# Altium footprint library Connectors.PcbLib: 12 footprints
Each footprint in its own frame and in the unit in brackets; x right, y up, seen from the top. Pads: shape width x height; smd on the part's side, far side on the other; paste and mask are expansions set on the pad; w line width, h text height; cw(c..) or ccw(c..) is an arc to the next point about the centre after c.
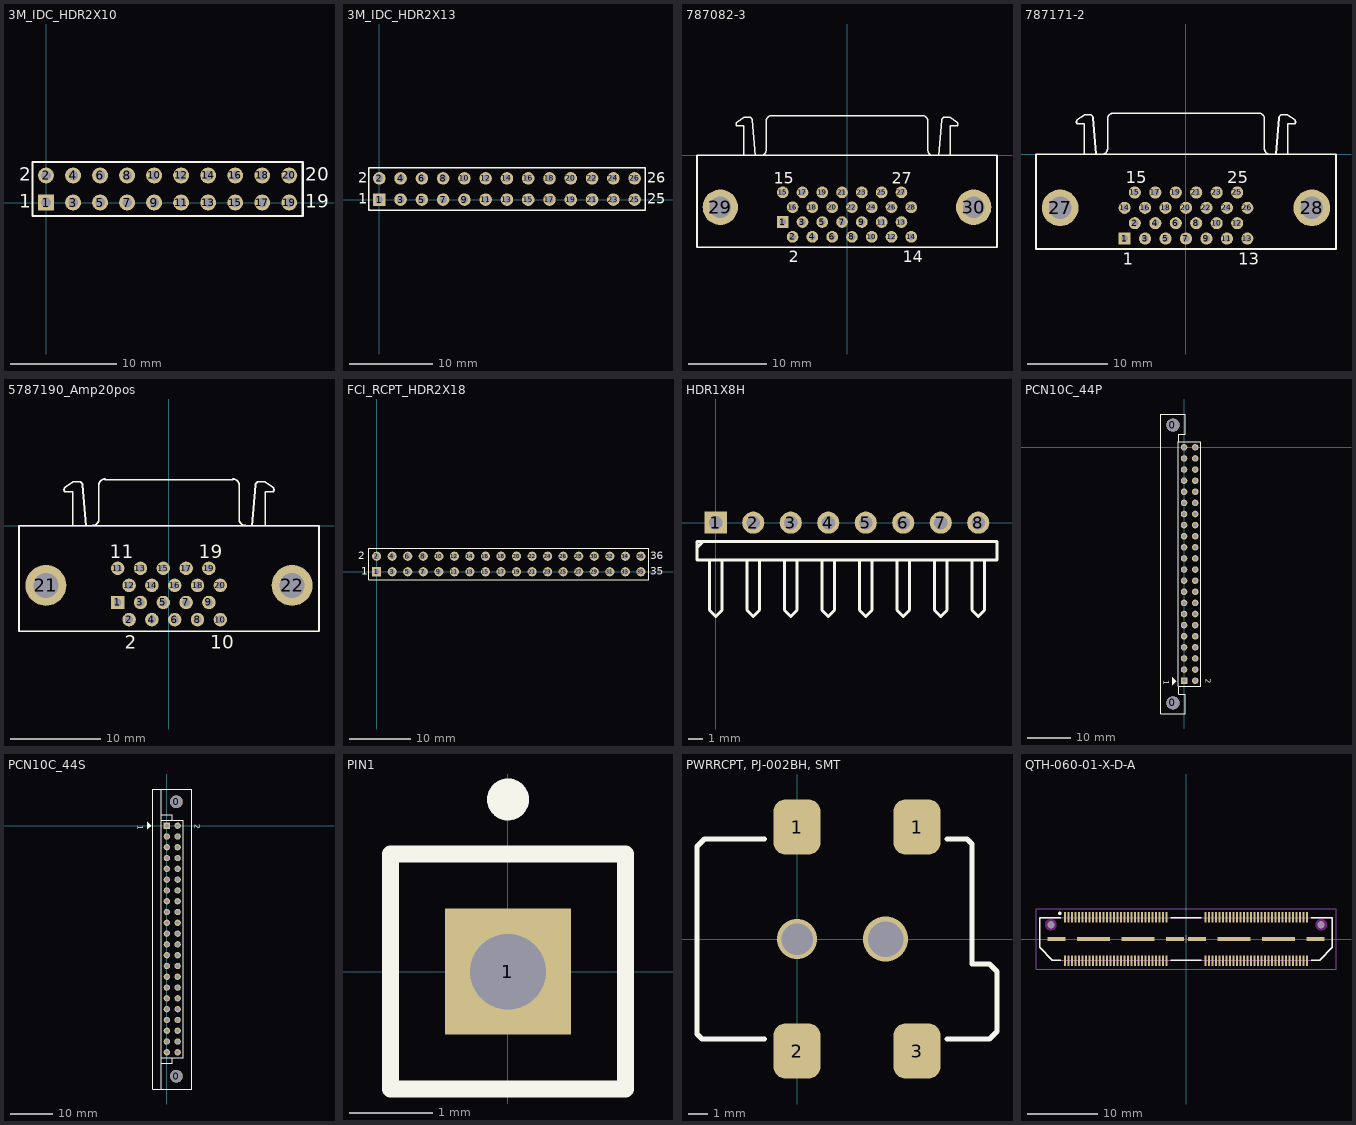
[diagram p0: the footprints below, top view; thin cyan lines are the x and y axes]

## 3M_IDC_HDR2X10 [mm] "Connector; Header; 10x2 Position"
pads (20):
  rect 1.5x1.5 hole 0.9: 1(0,0)
  round 1.5 hole 0.9: 2(0,2.54) 3(2.54,0) 4(2.54,2.54) 5(5.08,0) 6(5.08,2.54) 7(7.62,0) 8(7.62,2.54) 9(10.16,0) 10(10.16,2.54) 11(12.7,0) 12(12.7,2.54) 13(15.24,0) 14(15.24,2.54) 15(17.78,0) 16(17.78,2.54) 17(20.32,0) 18(20.32,2.54) 19(22.86,0) 20(22.86,2.54)
Top Overlay:
  lines w0.2: -1.27,-1.27 -1.27,3.81 0.635,3.81 24.13,3.81 24.13,-1.27 0.635,-1.27 -1.27,-1.27
  text "2" at -2.54,2.032 h1.27
  text "1" at -2.54,-0.508 h1.27
  text "19" at 24.384,-0.508 h1.27
  text "20" at 24.384,2.032 h1.27
3D body: height 17.27, standoff -3.94, extent -10.922,-3.048 33.782,5.588

## 3M_IDC_HDR2X13 [mm] "Connector; Header; 13x2 Position"
pads (26):
  rect 1.5x1.5 hole 0.9: 1(0,0)
  round 1.5 hole 0.9: 2(0,2.54) 3(2.54,0) 4(2.54,2.54) 5(5.08,0) 6(5.08,2.54) 7(7.62,0) 8(7.62,2.54) 9(10.16,0) 10(10.16,2.54) 11(12.7,0) 12(12.7,2.54) 13(15.24,0) 14(15.24,2.54) 15(17.78,0) 16(17.78,2.54) 17(20.32,0) 18(20.32,2.54) 19(22.86,0) 20(22.86,2.54) 21(25.4,0) 22(25.4,2.54) 23(27.94,0) 24(27.94,2.54) 25(30.48,0) 26(30.48,2.54)
Top Overlay:
  lines w0.2: -1.27,-1.27 31.75,-1.27 31.75,3.81 -1.27,3.81 -1.27,-1.27
  text "26" at 32.004,2.032 h1.27
  text "25" at 32.004,-0.508 h1.27
  text "1" at -2.54,-0.508 h1.27
  text "2" at -2.54,2.032 h1.27
3D body: height 17.27, standoff -3.94, extent -10.795,-2.921 41.529,5.715

## 787082-3 [mm] "Connector; D Subminiature 050 Series; 28 Position; Right Angle"
height 10.44
pads (30):
  rect 1.5x1.5 hole 0.86: 1(-8.255,-8.555)
  round 1.5 hole 0.86: 2(-6.985,-10.46) 3(-5.715,-8.555) 4(-4.445,-10.46) 5(-3.175,-8.555) 6(-1.905,-10.46) 7(-0.635,-8.555) 8(0.635,-10.46) 9(1.905,-8.555) 10(3.175,-10.46) 11(4.445,-8.555) 12(5.715,-10.46) 13(6.985,-8.555) 14(8.255,-10.46) 15(-8.255,-4.745) 16(-6.985,-6.65) 17(-5.715,-4.745) 18(-4.445,-6.65) 19(-3.175,-4.745) 20(-1.905,-6.65) 21(-0.635,-4.745) 22(0.635,-6.65) 23(1.905,-4.745) 24(3.175,-6.65) 25(4.445,-4.745) 26(5.715,-6.65) 27(6.985,-4.745) 28(8.255,-6.65)
  round 4.55 hole 2.77: 29(-16.255,-6.65) 30(16.255,-6.65)
Top Overlay:
  lines w0.2: -14.14,4.27 -13.2,4.898 -12.478,4.898 cw(c-12.58,4.5) -12.17,4.5 ; -14.126,4.255 ccw(c-13.9,4.01) -14.15,3.79 -13.27,3.79 -13.27,0 ; -12.17,4.52 -11.8,0 ; -11.06,0.005 ccw(c-11.06,0.7) -10.365,0.7 -10.365,4.41 cw(c-9.67,4.41) -9.67,5.105 ; -9.67,5.11 9.67,5.11 ; 9.67,5.105 cw(c9.67,4.41) 10.365,4.41 10.365,0.7 ccw(c11.06,0.7) 11.06,0.005 ; 11.8,0 12.17,4.52 ; 12.17,4.5 cw(c12.58,4.5) 12.478,4.898 13.2,4.898 14.14,4.27 ; 13.27,0 13.27,3.79 14.15,3.79 ccw(c13.9,4.01) 14.126,4.255 ; -19.25,-11.76 19.25,-11.76 19.25,0 -19.25,0 -19.25,-11.76
  text "2" at -7.485,-13.735 h1.5
  text "14" at 7.13,-13.735 h1.5
  text "15" at -9.38,-3.62 h1.5
  text "27" at 5.735,-3.62 h1.5
3D body: height 9.46, standoff -3.85, extent -19.177,-11.735 19.304,5.131

## 787171-2 [mm] "Connector; D Subminiature 050 Series; 26 Position; Right Angle"
height 10.44
pads (28):
  rect 1.5x1.5 hole 0.86: 1(-7.62,-10.46)
  round 1.5 hole 0.86: 2(-6.35,-8.555) 3(-5.08,-10.46) 4(-3.81,-8.555) 5(-2.54,-10.46) 6(-1.27,-8.555) 7(0,-10.46) 8(1.27,-8.555) 9(2.54,-10.46) 10(3.81,-8.555) 11(5.08,-10.46) 12(6.35,-8.555) 13(7.62,-10.46) 14(-7.62,-6.65) 15(-6.35,-4.745) 16(-5.08,-6.65) 17(-3.81,-4.745) 18(-2.54,-6.65) 19(-1.27,-4.745) 20(0,-6.65) 21(1.27,-4.745) 22(2.54,-6.65) 23(3.81,-4.745) 24(5.08,-6.65) 25(6.35,-4.745) 26(7.62,-6.65)
  round 4.55 hole 2.77: 27(-15.62,-6.65) 28(15.62,-6.65)
Top Overlay:
  lines w0.2: -13.505,4.27 -12.565,4.898 -11.843,4.898 cw(c-11.945,4.5) -11.535,4.5 ; -13.491,4.255 ccw(c-13.265,4.01) -13.515,3.79 -12.635,3.79 -12.635,0 ; -11.535,4.52 -11.165,0 ; -10.425,0.005 ccw(c-10.425,0.7) -9.73,0.7 -9.73,4.4 cw(c-9.035,4.4) -9.035,5.095 ; -9.035,5.11 9.035,5.11 ; 9.035,5.105 cw(c9.035,4.41) 9.73,4.41 9.73,0.7 ccw(c10.425,0.7) 10.425,0.005 ; 11.165,0 11.535,4.52 ; 11.535,4.5 cw(c11.945,4.5) 11.843,4.898 12.565,4.898 13.505,4.27 ; 12.635,0 12.635,3.79 13.515,3.79 ccw(c13.265,4.01) 13.491,4.255 ; -18.615,-11.76 18.615,-11.76 18.615,0 -18.615,0 -18.615,-11.76
  text "1" at -7.87,-13.735 h1.5
  text "13" at 6.495,-13.735 h1.5
  text "15" at -7.475,-3.62 h1.5
  text "25" at 5.1,-3.62 h1.5
3D body: height 9.46, standoff -3.52, extent -18.669,-11.938 18.542,4.953

## 5787190_Amp20pos [mm] "Connector; D Subminiature 050 Series; 20 Position; Right Angle"
height 10.44
pads (22):
  rect 1.5x1.5 hole 0.86: 1(-5.715,-8.555)
  round 1.5 hole 0.86: 2(-4.445,-10.46) 3(-3.175,-8.555) 4(-1.905,-10.46) 5(-0.635,-8.555) 6(0.635,-10.46) 7(1.905,-8.555) 8(3.175,-10.46) 9(4.445,-8.555) 10(5.715,-10.46) 11(-5.715,-4.745) 12(-4.445,-6.65) 13(-3.175,-4.745) 14(-1.905,-6.65) 15(-0.635,-4.745) 16(0.635,-6.65) 17(1.905,-4.745) 18(3.175,-6.65) 19(4.445,-4.745) 20(5.715,-6.65)
  round 4.55 hole 2.77: 21(-13.715,-6.65) 22(13.715,-6.65)
Top Overlay:
  lines w0.2: -11.6,4.27 -10.66,4.898 -9.938,4.898 cw(c-10.04,4.5) -9.63,4.5 ; -11.586,4.255 ccw(c-11.36,4.01) -11.61,3.79 -10.73,3.79 -10.73,0 ; -9.63,4.52 -9.26,0 ; -8.52,0.005 ccw(c-8.52,0.7) -7.825,0.7 -7.825,4.5 ; -7.82,4.505 cw(c-7.125,4.505) -7.125,5.2 ; -7.125,5.11 7.125,5.11 ; 7.125,5.2 cw(c7.125,4.505) 7.82,4.505 ; 7.825,4.5 7.825,0.7 ccw(c8.52,0.7) 8.52,0.005 ; 9.26,0 9.63,4.52 ; 9.63,4.5 cw(c10.04,4.5) 9.938,4.898 10.66,4.898 11.6,4.27 ; 10.73,0 10.73,3.79 11.61,3.79 ccw(c11.36,4.01) 11.586,4.255 ; -16.71,-11.76 16.71,-11.76 16.71,0 -16.71,0 -16.71,-11.76
  text "10" at 4.59,-13.735 h1.5
  text "19" at 3.32,-3.62 h1.5
  text "11" at -6.59,-3.62 h1.5
  text "2" at -4.945,-13.735 h1.5
Mechanical 13:
  lines w0.1: -16.71,-11.76 16.71,-11.76 16.71,0 -16.71,0 -16.71,-11.76
3D body: height 9.46, standoff -2.58, extent -16.764,-11.811 16.637,5.055

## FCI_RCPT_HDR2X18 [mm] "Connector; Header; 18x2 Position"
pads (36):
  rect 1.5x1.5 hole 0.9: 1(0,0)
  round 1.5 hole 0.9: 2(0,2.54) 3(2.54,0) 4(2.54,2.54) 5(5.08,0) 6(5.08,2.54) 7(7.62,0) 8(7.62,2.54) 9(10.16,0) 10(10.16,2.54) 11(12.7,0) 12(12.7,2.54) 13(15.24,0) 14(15.24,2.54) 15(17.78,0) 16(17.78,2.54) 17(20.32,0) 18(20.32,2.54) 19(22.86,0) 20(22.86,2.54) 21(25.4,0) 22(25.4,2.54) 23(27.94,0) 24(27.94,2.54) 25(30.48,0) 26(30.48,2.54) 27(33.02,0) 28(33.02,2.54) 29(35.56,0) 30(35.56,2.54) 31(38.1,0) 32(38.1,2.54) 33(40.64,0) 34(40.64,2.54) 35(43.18,0) 36(43.18,2.54)
Top Overlay:
  lines w0.2: -1.27,-1.27 -1.27,3.81 44.45,3.81 44.45,-1.27 -1.27,-1.27
  text "2" at -3.048,2.032 h1.27
  text "1" at -2.54,-0.508 h1.27
  text "35" at 44.704,-0.508 h1.27
  text "36" at 44.704,2.032 h1.27

## HDR1X8H [mm] "Connector; Header; 8 Position; Right Angle"
pads (8):
  rect 1.5x1.5 hole 0.9: 1(0,0)
  round 1.5 hole 0.9: 2(2.54,0) 3(5.08,0) 4(7.62,0) 5(10.16,0) 6(12.7,0) 7(15.24,0) 8(17.78,0)
Top Overlay:
  lines w0.2: -1.27,-1.693 -0.847,-1.27 ; -0.423,-2.54 -0.423,-5.927 0,-6.35 0.423,-5.927 0.423,-2.54 ; 2.117,-2.54 2.117,-5.927 2.54,-6.35 2.963,-5.927 2.963,-2.54 ; 4.657,-2.54 4.657,-5.927 5.08,-6.35 5.503,-5.927 5.503,-2.54 ; 7.197,-2.54 7.197,-5.927 7.62,-6.35 8.043,-5.927 8.043,-2.54 ; 9.737,-2.54 9.737,-5.927 10.16,-6.35 10.583,-5.927 10.583,-2.54 ; 12.277,-2.54 12.277,-5.927 12.7,-6.35 13.123,-5.927 13.123,-2.54 ; 14.817,-2.54 14.817,-5.927 15.24,-6.35 15.663,-5.927 15.663,-2.54 ; 17.357,-2.54 17.357,-5.927 17.78,-6.35 18.203,-5.927 18.203,-2.54 ; -1.27,-2.54 19.05,-2.54 19.05,-1.27 -1.27,-1.27 -1.27,-2.54
3D body: height 3.8, standoff -2.7, extent -1.27,-11.052 19.05,0.266

## PCN10C_44P [mm] "Hirose 2 row, 44 pin right angle male connector (pins)"
pads (46):
  round 3 hole 3: 0(-2.54,-58.42) 0(-2.54,5.08)
  rect 1.5x1.5 hole 0.9: 1(0,-53.34)
  round 1.5 hole 0.9: 2(2.54,-53.34) 3(0,-50.8) 4(2.54,-50.8) 5(0,-48.26) 6(2.54,-48.26) 7(0,-45.72) 8(2.54,-45.72) 9(0,-43.18) 10(2.54,-43.18) 11(0,-40.64) 12(2.54,-40.64) 13(0,-38.1) 14(2.54,-38.1) 15(0,-35.56) 16(2.54,-35.56) 17(0,-33.02) 18(2.54,-33.02) 19(0,-30.48) 20(2.54,-30.48) 21(0,-27.94) 22(2.54,-27.94) 23(0,-25.4) 24(2.54,-25.4) 25(0,-22.86) 26(2.54,-22.86) 27(0,-20.32) 28(2.54,-20.32) 29(0,-17.78) 30(2.54,-17.78) 31(0,-15.24) 32(2.54,-15.24) 33(0,-12.7) 34(2.54,-12.7) 35(0,-10.16) 36(2.54,-10.16) 37(0,-7.62) 38(2.54,-7.62) 39(0,-5.08) 40(2.54,-5.08) 41(0,-2.54) 42(2.54,-2.54) 43(0,0) 44(2.54,0)
Top Overlay:
  region: -1.778,-53.467 -2.667,-52.578 -2.667,-54.356
  lines w0.2: -1.27,-54.616 -1.27,-56.394 0.21,-56.394 ; 0.254,3.048 -1.27,3.048 -1.27,1.27 ; -1.27,1.27 3.81,1.27 3.81,-54.61 -1.27,-54.61 -1.27,1.27
  lines w0.203: -5.334,7.62 -5.334,-60.96 0.254,-60.96 0.254,-56.394 ; -5.29,7.62 0.254,7.62 ; 0.254,3.048 0.254,7.614
  text "2" at 4.953,-52.959 h1.27
  text "1" at -4.699,-53.213 h1.27
3D body: height 6.9, standoff -2.95, extent -12.616,-61.03 2.864,7.57

## PCN10C_44S [mm]
pads (46):
  round 3 hole 3: 0(2.24,-58.97) 0(2.24,5.63)
  rect 1.5x1.5 hole 0.9: 1(0,0)
  round 1.5 hole 0.9: 2(2.54,0) 3(0,-2.54) 4(2.54,-2.54) 5(0,-5.08) 6(2.54,-5.08) 7(0,-7.62) 8(2.54,-7.62) 9(0,-10.16) 10(2.54,-10.16) 11(0,-12.7) 12(2.54,-12.7) 13(0,-15.24) 14(2.54,-15.24) 15(0,-17.78) 16(2.54,-17.78) 17(0,-20.32) 18(2.54,-20.32) 19(0,-22.86) 20(2.54,-22.86) 21(0,-25.4) 22(2.54,-25.4) 23(0,-27.94) 24(2.54,-27.94) 25(0,-30.48) 26(2.54,-30.48) 27(0,-33.02) 28(2.54,-33.02) 29(0,-35.56) 30(2.54,-35.56) 31(0,-38.1) 32(2.54,-38.1) 33(0,-40.64) 34(2.54,-40.64) 35(0,-43.18) 36(2.54,-43.18) 37(0,-45.72) 38(2.54,-45.72) 39(0,-48.26) 40(2.54,-48.26) 41(0,-50.8) 42(2.54,-50.8) 43(0,-53.34) 44(2.54,-53.34)
Top Overlay:
  region: -3.683,0 -4.572,0.889 -4.572,-0.889
  lines w0.2: -1.27,-54.61 3.81,-54.61 3.81,1.27 -1.27,1.27 -1.27,-54.61
  lines w0.203: -1.27,-61.97 -1.27,-55.88 ; -1.27,-54.61 -1.27,-55.88 ; -1.27,1.27 -1.27,2.54 ; -1.27,8.63 -1.27,2.54 ; 1.27,-54.61 1.27,-55.88 -1.27,-55.88 ; 1.27,1.27 1.27,2.54 -1.27,2.54 ; -3.28,-61.97 -3.28,8.63 5.82,8.63 5.82,-61.97 -3.28,-61.97
  text "1" at -6.858,0.127 h1.27
  text "2" at 6.604,0.381 h1.27
3D body: height 11.5, standoff -3.9, extent -2.766,-61.468 5.334,8.132

## PIN1 [mm] "Generic Antenna; 1 Lead"
pads (1):
  rect 1.5x1.5 hole 0.9: 1(0,0)
Top Overlay:
  circle w0.25: c0,2.05 r0.125
  lines w0.2: -1.4,-1.4 -1.4,1.4 1.4,1.4 1.4,-1.4 -1.4,-1.4

## PWRRCPT, PJ-002BH, SMT [mm] "Power receptacle, SMT"
height 10.998
pads (4):
  rrect50% 2.4x2.8 smd: 1(0,5.69) 1(6.096,5.69) 2(0,-5.69) 3(6.096,-5.69)
via 0,0 diameter 2.032 hole 1.6
via 4.496,0 diameter 2.286 hole 1.803
Top Overlay:
  lines w0.254: -1.651,-5.08 -4.826,-5.08 -5.08,-4.826 -5.08,4.699 -4.699,5.08 -1.651,5.08 ; 7.62,-5.08 9.779,-5.08 10.16,-4.699 10.16,-1.651 9.779,-1.27 8.89,-1.27 8.89,4.826 8.636,5.08 7.62,5.08
3D body: height 11.2, standoff -1, extent -5.021,-6.3 9.779,6.3

## QTH-060-01-X-D-A [mm] "0.50mm pitch, 120 pin, high speed terminal strip"
height 4.27
pads (130):
  rect 0.3x1.45 smd mask+0: 1(-17.25,3.09) 2(-17.25,-3.09) 3(-16.75,3.09) 4(-16.75,-3.09) 5(-16.25,3.09) 6(-16.25,-3.09) 7(-15.75,3.09) 8(-15.75,-3.09) 9(-15.25,3.09) 10(-15.25,-3.09) 11(-14.75,3.09) 12(-14.75,-3.09) 13(-14.25,3.09) 14(-14.25,-3.09) 15(-13.75,3.09) 16(-13.75,-3.09) 17(-13.25,3.09) 18(-13.25,-3.09) 19(-12.75,3.09) 20(-12.75,-3.09) 21(-12.25,3.09) 22(-12.25,-3.09) 23(-11.75,3.09) 24(-11.75,-3.09) 25(-11.25,3.09) 26(-11.25,-3.09) 27(-10.75,3.09) 28(-10.75,-3.09) 29(-10.25,3.09) 30(-10.25,-3.09) 31(-9.75,3.09) 32(-9.75,-3.09) 33(-9.25,3.09) 34(-9.25,-3.09) 35(-8.75,3.09) 36(-8.75,-3.09) 37(-8.25,3.09) 38(-8.25,-3.09) 39(-7.75,3.09) 40(-7.75,-3.09) 41(-7.25,3.09) 42(-7.25,-3.09) 43(-6.75,3.09) 44(-6.75,-3.09) 45(-6.25,3.09) 46(-6.25,-3.09) 47(-5.75,3.09) 48(-5.75,-3.09) 49(-5.25,3.09) 50(-5.25,-3.09) 51(-4.75,3.09) 52(-4.75,-3.09) 53(-4.25,3.09) 54(-4.25,-3.09) 55(-3.75,3.09) 56(-3.75,-3.09) 57(-3.25,3.09) 58(-3.25,-3.09) 59(-2.75,3.09) 60(-2.75,-3.09) 61(2.75,3.09) 62(2.75,-3.09) 63(3.25,3.09) 64(3.25,-3.09) 65(3.75,3.09) 66(3.75,-3.09) 67(4.25,3.09) 68(4.25,-3.09) 69(4.75,3.09) 70(4.75,-3.09) 71(5.25,3.09) 72(5.25,-3.09) 73(5.75,3.09) 74(5.75,-3.09) 75(6.25,3.09) 76(6.25,-3.09) 77(6.75,3.09) 78(6.75,-3.09) 79(7.25,3.09) 80(7.25,-3.09) 81(7.75,3.09) 82(7.75,-3.09) 83(8.25,3.09) 84(8.25,-3.09) 85(8.75,3.09) 86(8.75,-3.09) 87(9.25,3.09) 88(9.25,-3.09) 89(9.75,3.09) 90(9.75,-3.09) 91(10.25,3.09) 92(10.25,-3.09) 93(10.75,3.09) 94(10.75,-3.09) 95(11.25,3.09) 96(11.25,-3.09) 97(11.75,3.09) 98(11.75,-3.09) 99(12.25,3.09) 100(12.25,-3.09) 101(12.75,3.09) 102(12.75,-3.09) 103(13.25,3.09) 104(13.25,-3.09) 105(13.75,3.09) 106(13.75,-3.09) 107(14.25,3.09) 108(14.25,-3.09) 109(14.75,3.09) 110(14.75,-3.09) 111(15.25,3.09) 112(15.25,-3.09) 113(15.75,3.09) 114(15.75,-3.09) 115(16.25,3.09) 116(16.25,-3.09) 117(16.75,3.09) 118(16.75,-3.09) 119(17.25,3.09) 120(17.25,-3.09)
  rect 2.54x0.635 smd mask+0: 121(-18.455,0) 124(-1.545,0) 125(1.545,0) 128(18.455,0)
  rect 4.7x0.635 smd mask+0: 122(-13.175,0) 123(-6.825,0) 126(6.825,0) 127(13.175,0)
  round 0.5 hole 1 unplated mask+0: 129(-19.24,2.03) 130(19.24,2.03)
Top Overlay:
  circle w0.25: c-17.95,3.65 r0.125
  lines w0.2: -17.8,-3 -19.05,-3 -20.85,-1.2 -20.85,3 -17.8,3 ; -2.2,-3 2.2,-3 ; -2.2,3 2.2,3 ; 17.8,-3 19.05,-3 20.85,-1.2 20.85,3 17.8,3
Keep-Out Layer:
  pour cut-out: 20.047,2.03 20.019,2.239 19.939,2.433 19.811,2.601 19.643,2.729 19.449,2.809 19.24,2.837 19.031,2.809 18.837,2.729 18.669,2.601 18.541,2.433 18.461,2.239 18.433,2.03 18.461,1.821 18.541,1.627 18.669,1.459 18.837,1.331 19.031,1.251 19.24,1.223 19.449,1.251 19.643,1.331 19.811,1.459 19.939,1.627 20.019,1.821
  pour cut-out: -18.433,2.03 -18.461,2.239 -18.541,2.433 -18.669,2.601 -18.837,2.729 -19.031,2.809 -19.24,2.837 -19.449,2.809 -19.643,2.729 -19.811,2.601 -19.939,2.433 -20.019,2.239 -20.047,2.03 -20.019,1.821 -19.939,1.627 -19.811,1.459 -19.643,1.331 -19.449,1.251 -19.24,1.223 -19.031,1.251 -18.837,1.331 -18.669,1.459 -18.541,1.627 -18.461,1.821
Mechanical 12:
  lines w0.001: -20.85,-1.2 -19.05,-3 19.05,-3 20.85,-1.2 20.85,3 -20.85,3 -20.85,-1.2
Mechanical 13:
  lines w0.1: -20.85,-1.2 -19.05,-3 19.05,-3 20.85,-1.2 20.85,3 -20.85,3 -20.85,-1.2
  text ".Designator" at 0,-0.127 h1.52
Mechanical 15:
  lines w0.05: -0.5,0 0.5,0 ; 0,-0.5 0,0.5 ; -21.35,-4.3 -21.35,4.3 21.35,4.3 21.35,-4.3 -21.35,-4.3
3D body: height 4.23, standoff -0.78, extent -20.003,-3.556 20.003,3.556